# EAGLE library part 93C66 (library SummerCart64)
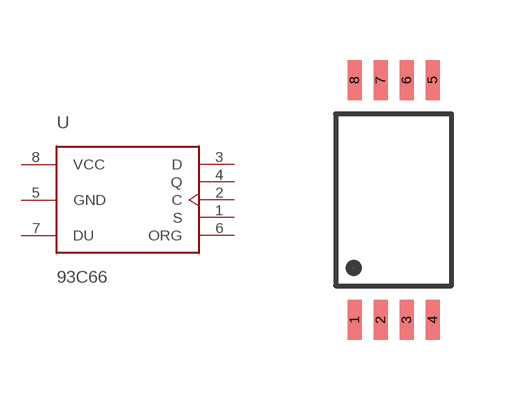
[diagram p4: symbol with the pads of TSSOP8; footprint TSSOP8]

Designator prefix U

## 93C66  [TSSOP8]
1  S  in
2  C  in
3  D  in
4  Q  out
5  GND  pwr
6  ORG  in
7  DU  nc
8  VCC  pwr

## Footprint TSSOP8 (pad centres in mm)
smd 0.35 x 1: 1 -0.975,-3; 2 -0.325,-3; 3 0.325,-3; 4 0.975,-3; 5 0.975,3; 6 0.325,3; 7 -0.325,3; 8 -0.975,3